# Altium schematic symbol library PTC - FUSE.SchLib: 1 symbol
Pins are listed as number, name and electrical type; pins without a type are passive.

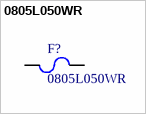
[diagram p0: symbol 0805L050WR]

## 0805L050WR
designator F?
Polymeric 6V 1A 100ms 850mΩ 0805 PTC Resettable Fuses; Manufacturer: Littelfuse; Current - Max: 100A; Current - Hold (Ih): 500mA; Resistance - Initial (Ri) (Min): 150mΩ; Part Number: 0805L050WR; Package: 0805; Supplier 1: Digi-Key; Supplier Part Number 1: F2772CT-ND; ComponentLink1Description: Datasheet; ComponentLink1URL: https://datasheet.lcsc.com/lcsc/1810210311_Littelfuse-0805L050WR_C207022.pdf; Voltage - Max: 6V; Current - Trip (It): 1A; Maximum Time to Trip: 100ms; Post Trip Resistance (R1max): 850mΩ; Operating Temperature: -40°C ~ 85°C
footprint PTC 0805_2012 (PTC Resettable Fuses, 2-Leads, Body 2.00x1.25mm, IPC Medium Density)
pins: 1, 2